# Altium footprint library SC_TSSOP38.PcbLib: 1 footprints
Each footprint in its own frame and in the unit in brackets; x right, y up, seen from the top. Pads: shape width x height; smd on the part's side, far side on the other; paste and mask are expansions set on the pad; w line width, h text height; cw(c..) or ccw(c..) is an arc to the next point about the centre after c.
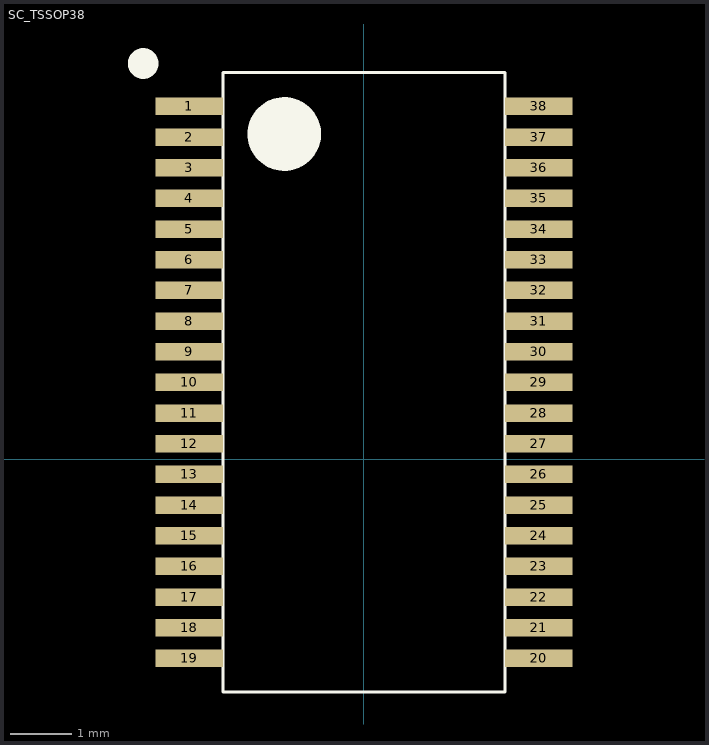
[diagram p0: the footprint, top view; thin cyan lines are the x and y axes]

## SC_TSSOP38 [mm] "TSSOP38"
height 1.2
pads (38):
  rect 1.1x0.285 smd: 1(-2.85,5.75) 2(-2.85,5.25) 3(-2.85,4.75) 4(-2.85,4.25) 5(-2.85,3.75) 6(-2.85,3.25) 7(-2.85,2.75) 8(-2.85,2.25) 9(-2.85,1.75) 10(-2.85,1.25) 11(-2.85,0.75) 12(-2.85,0.25) 13(-2.85,-0.25) 14(-2.85,-0.75) 15(-2.85,-1.25) 16(-2.85,-1.75) 17(-2.85,-2.25) 18(-2.85,-2.75) 19(-2.85,-3.25) 20(2.85,-3.25) 21(2.85,-2.75) 22(2.85,-2.25) 23(2.85,-1.75) 24(2.85,-1.25) 25(2.85,-0.75) 26(2.85,-0.25) 27(2.85,0.25) 28(2.85,0.75) 29(2.85,1.25) 30(2.85,1.75) 31(2.85,2.25) 32(2.85,2.75) 33(2.85,3.25) 34(2.85,3.75) 35(2.85,4.25) 36(2.85,4.75) 37(2.85,5.25) 38(2.85,5.75)
Top Overlay:
  circle w0.6: c-1.3,5.3 r0.3
  circle w0.25: c-3.6,6.45 r0.125
  lines w0.051: -2.3,-3.8 2.3,-3.8 2.3,6.3 -2.3,6.3 -2.3,-3.8
3D body: height 0.98, standoff 0, extent -3.2,-3.58 3.2,6.12